# EAGLE library part Q-MOSFET-PCH-DUAL-PDFN (library Q-MOSFET-PCH-dual-pdfn)
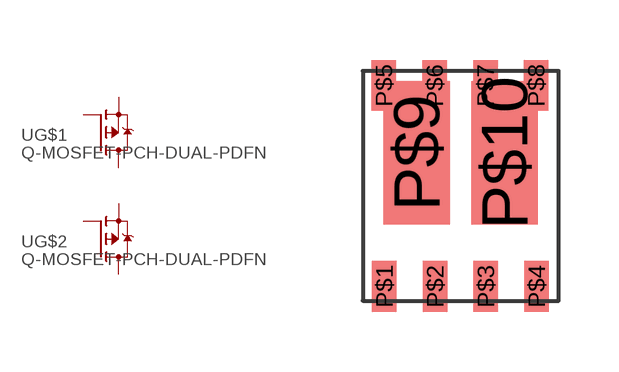
[diagram p0: symbol with the pads of PDFN; footprint PDFN]

Designator prefix -; gates G$1=P-MOSFET G$2=P-MOSFET

## Q-MOSFET-PCH-DUAL-PDFN  [PDFN]
P$1  G$1:S  pas
P$2  G$1:G  pas
P$3  G$2:S  pas
P$4  G$2:G  pas
P$5  G$1:D  pas
P$6  G$1:D  pas
P$7  G$2:D  pas
P$8  G$2:D  pas
P$9  G$1:D  pas
P$10  G$2:D  pas

## Footprint PDFN (pad centres in mm)
smd 0.61 x 1.27: P$1 -1.873,-2.688; P$2 -0.603,-2.688; P$3 0.667,-2.688; P$4 1.937,-2.688; P$5 -1.883,2.342; P$6 -0.613,2.342; P$7 0.657,2.342; P$8 1.927,2.342
smd 1.66 x 3.58: P$9 -1.063,0.652; P$10 1.137,0.652